# EAGLE library part IRS27952SPBF (library International_Rectifier_By_element14_Batch_1)
RESONANT HALF-BRIDGE CONVERTER CONTROL IC
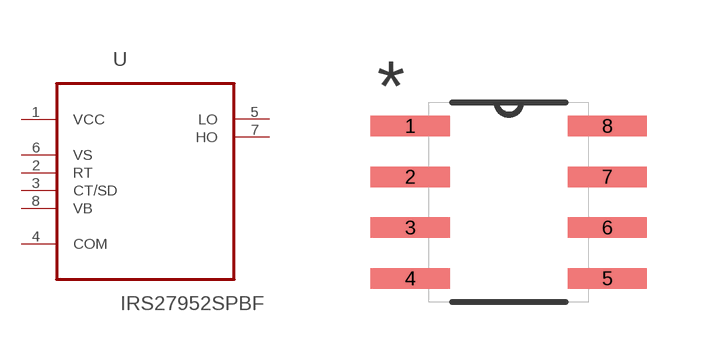
[diagram p106: symbol with the pads of SOIC127P600X175-8N; footprint SOIC127P600X175-8N]

Designator prefix U

## IRS27952SPBF (MPN: IRS27952SPBF; OC_FARNELL: 1866043; OC_NEWARK: 41T2875; PACKAGE: SOIC-8; SUPPLIER: INTERNATIONAL RECTIFIER)  [SOIC127P600X175-8N]
1  VCC  pwr
2  RT  in
3  CT/SD  in
4  COM  pas
5  LO  out
6  VS  in
7  HO  out
8  VB  in

## Footprint SOIC127P600X175-8N (pad centres in mm)
smd 1.981 x 0.508: 1 -2.464,1.905; 2 -2.464,0.635; 3 -2.464,-0.635; 4 -2.464,-1.905; 5 2.464,-1.905; 6 2.464,-0.635; 7 2.464,0.635; 8 2.464,1.905